# Altium footprint library PCB1.PcbLib: 36 footprints (part 2 of 3)
Each footprint in its own frame and in the unit in brackets; x right, y up, seen from the top. Pads: shape width x height; smd on the part's side, far side on the other; paste and mask are expansions set on the pad; w line width, h text height; cw(c..) or ccw(c..) is an arc to the next point about the centre after c.
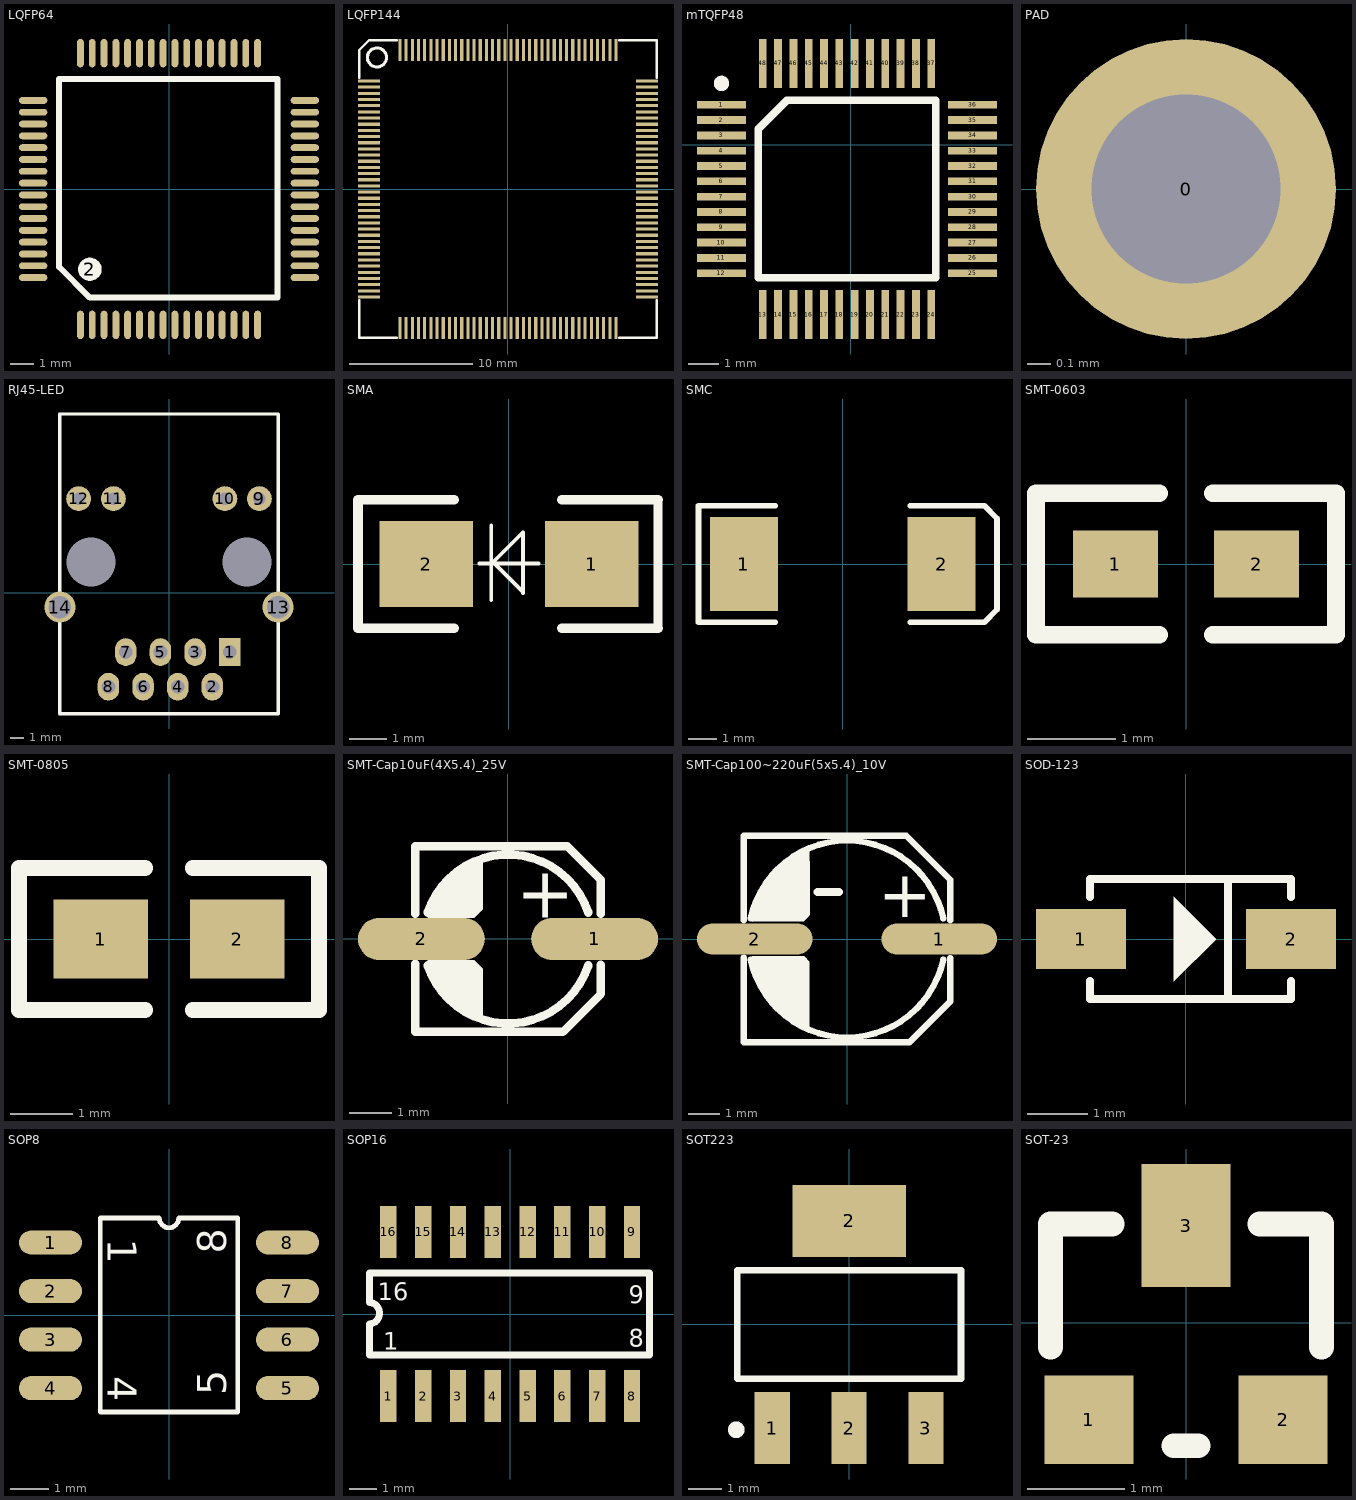
[diagram p1: the footprints below, top view; thin cyan lines are the x and y axes]

## LQFP64 [mm]
height 1.6
pads (65):
  oval 0.292x1.2 smd: 1(-3.75,-5.75) 2(-3.25,-5.75) 3(-2.75,-5.75) 4(-2.25,-5.75) 5(-1.75,-5.75) 6(-1.25,-5.75) 7(-0.75,-5.75) 8(-0.25,-5.75) 9(0.25,-5.75) 10(0.75,-5.75) 11(1.25,-5.75) 12(1.75,-5.75) 13(2.25,-5.75) 14(2.75,-5.75) 15(3.25,-5.75) 16(3.75,-5.75) 33(3.75,5.75) 34(3.25,5.75) 35(2.75,5.75) 36(2.25,5.75) 37(1.75,5.75) 38(1.25,5.75) 39(0.75,5.75) 40(0.25,5.75) 41(-0.25,5.75) 42(-0.75,5.75) 43(-1.25,5.75) 44(-1.75,5.75) 45(-2.25,5.75) 46(-2.75,5.75) 47(-3.25,5.75) 48(-3.75,5.75)
  round 1 on Top Overlay: 2(-3.35,-3.4)
  oval 1.2x0.292 smd: 17(5.75,-3.75) 18(5.75,-3.25) 19(5.75,-2.75) 20(5.75,-2.25) 21(5.75,-1.75) 22(5.75,-1.25) 23(5.75,-0.75) 24(5.75,-0.25) 25(5.75,0.25) 26(5.75,0.75) 27(5.75,1.25) 28(5.75,1.75) 29(5.75,2.25) 30(5.75,2.75) 31(5.75,3.25) 32(5.75,3.75) 49(-5.75,3.75) 50(-5.75,3.25) 51(-5.75,2.75) 52(-5.75,2.25) 53(-5.75,1.75) 54(-5.75,1.25) 55(-5.75,0.75) 56(-5.75,0.25) 57(-5.75,-0.25) 58(-5.75,-0.75) 59(-5.75,-1.25) 60(-5.75,-1.75) 61(-5.75,-2.25) 62(-5.75,-2.75) 63(-5.75,-3.25) 64(-5.75,-3.75)
Top Overlay:
  lines w0.254: -4.65,-3.3 -4.65,-2.05 -4.65,0 -4.65,4.65 4.6,4.65 4.6,-4.6 -3.35,-4.6 -4.65,-3.3

## LQFP144 [mm]
height 1.6
pads (144):
  rect 1.8x0.254 smd: 1(-11.25,8.75) 2(-11.25,8.25) 3(-11.25,7.75) 4(-11.25,7.25) 5(-11.25,6.75) 6(-11.25,6.25) 7(-11.25,5.75) 8(-11.25,5.25) 9(-11.25,4.75) 10(-11.25,4.25) 11(-11.25,3.75) 12(-11.25,3.25) 13(-11.25,2.75) 14(-11.25,2.25) 15(-11.25,1.75) 16(-11.25,1.25) 17(-11.25,0.75) 18(-11.25,0.25) 19(-11.25,-0.25) 20(-11.25,-0.75) 21(-11.25,-1.25) 22(-11.25,-1.75) 23(-11.25,-2.25) 24(-11.25,-2.75) 25(-11.25,-3.25) 26(-11.25,-3.75) 27(-11.25,-4.25) 28(-11.25,-4.75) 29(-11.25,-5.25) 30(-11.25,-5.75) 31(-11.25,-6.25) 32(-11.25,-6.75) 33(-11.25,-7.25) 34(-11.25,-7.75) 35(-11.25,-8.25) 36(-11.25,-8.75) 73(11.25,-8.75) 74(11.25,-8.25) 75(11.25,-7.75) 76(11.25,-7.25) 77(11.25,-6.75) 78(11.25,-6.25) 79(11.25,-5.75) 80(11.25,-5.25) 81(11.25,-4.75) 82(11.25,-4.25) 83(11.25,-3.75) 84(11.25,-3.25) 85(11.25,-2.75) 86(11.25,-2.25) 87(11.25,-1.75) 88(11.25,-1.25) 89(11.25,-0.75) 90(11.25,-0.25) 91(11.25,0.25) 92(11.25,0.75) 93(11.25,1.25) 94(11.25,1.75) 95(11.25,2.25) 96(11.25,2.75) 97(11.25,3.25) 98(11.25,3.75) 99(11.25,4.25) 100(11.25,4.75) 101(11.25,5.25) 102(11.25,5.75) 103(11.25,6.25) 104(11.25,6.75) 105(11.25,7.25) 106(11.25,7.75) 107(11.25,8.25) 108(11.25,8.75)
  rect 0.254x1.8 smd: 37(-8.75,-11.25) 38(-8.25,-11.25) 39(-7.75,-11.25) 40(-7.25,-11.25) 41(-6.75,-11.25) 42(-6.25,-11.25) 43(-5.75,-11.25) 44(-5.25,-11.25) 45(-4.75,-11.25) 46(-4.25,-11.25) 47(-3.75,-11.25) 48(-3.25,-11.25) 49(-2.75,-11.25) 50(-2.25,-11.25) 51(-1.75,-11.25) 52(-1.25,-11.25) 53(-0.75,-11.25) 54(-0.25,-11.25) 55(0.25,-11.25) 56(0.75,-11.25) 57(1.25,-11.25) 58(1.75,-11.25) 59(2.25,-11.25) 60(2.75,-11.25) 61(3.25,-11.25) 62(3.75,-11.25) 63(4.25,-11.25) 64(4.75,-11.25) 65(5.25,-11.25) 66(5.75,-11.25) 67(6.25,-11.25) 68(6.75,-11.25) 69(7.25,-11.25) 70(7.75,-11.25) 71(8.25,-11.25) 72(8.75,-11.25) 109(8.75,11.25) 110(8.25,11.25) 111(7.75,11.25) 112(7.25,11.25) 113(6.75,11.25) 114(6.25,11.25) 115(5.75,11.25) 116(5.25,11.25) 117(4.75,11.25) 118(4.25,11.25) 119(3.75,11.25) 120(3.25,11.25) 121(2.75,11.25) 122(2.25,11.25) 123(1.75,11.25) 124(1.25,11.25) 125(0.75,11.25) 126(0.25,11.25) 127(-0.25,11.25) 128(-0.75,11.25) 129(-1.25,11.25) 130(-1.75,11.25) 131(-2.25,11.25) 132(-2.75,11.25) 133(-3.25,11.25) 134(-3.75,11.25) 135(-4.25,11.25) 136(-4.75,11.25) 137(-5.25,11.25) 138(-5.75,11.25) 139(-6.25,11.25) 140(-6.75,11.25) 141(-7.25,11.25) 142(-7.75,11.25) 143(-8.25,11.25) 144(-8.75,11.25)
Top Overlay:
  circle w0.254: c-10.616,10.654 r0.773
  lines w0.2: -12.05,-9 -12.05,-12.05 -9,-12.05 ; -12.05,9 -12.05,11.25 -11.25,12.05 -9,12.05 ; 9,-12.05 12.05,-12.05 12.05,-9 ; 9,12.05 12.05,12.05 12.05,9

## mTQFP48 [mm]
pads (48):
  rect 1.6x0.254 smd: 1(-4.223,1.3) 2(-4.223,0.8) 3(-4.223,0.3) 4(-4.223,-0.2) 5(-4.223,-0.7) 6(-4.223,-1.2) 7(-4.223,-1.7) 8(-4.223,-2.2) 9(-4.223,-2.7) 10(-4.223,-3.2) 11(-4.223,-3.7) 12(-4.223,-4.2) 25(3.977,-4.2) 26(3.977,-3.7) 27(3.977,-3.2) 28(3.977,-2.7) 29(3.977,-2.2) 30(3.977,-1.7) 31(3.977,-1.2) 32(3.977,-0.7) 33(3.977,-0.2) 34(3.977,0.3) 35(3.977,0.8) 36(3.977,1.3)
  rect 0.254x1.6 smd: 13(-2.873,-5.55) 14(-2.373,-5.55) 15(-1.873,-5.55) 16(-1.373,-5.55) 17(-0.873,-5.55) 18(-0.373,-5.55) 19(0.127,-5.55) 20(0.627,-5.55) 21(1.127,-5.55) 22(1.627,-5.55) 23(2.127,-5.55) 24(2.627,-5.55) 37(2.627,2.65) 38(2.127,2.65) 39(1.627,2.65) 40(1.127,2.65) 41(0.627,2.65) 42(0.127,2.65) 43(-0.373,2.65) 44(-0.873,2.65) 45(-1.373,2.65) 46(-1.873,2.65) 47(-2.373,2.65) 48(-2.873,2.65)
Top Overlay:
  circle w0.25: c-4.223,2 r0.125
  lines w0.2: -3.023,-4.35 2.777,-4.35 2.777,1.45
  lines w0.254: -3.023,0.508 -2.081,1.45 ; -3.023,0.508 -3.023,-4.35 2.777,-4.35 2.777,1.45 -1.397,1.45 -2.081,1.45 ; -3.023,0.508 -2.081,1.45

## PAD [mm]
height 1.6
pads (1):
  round 1.27 hole 0.8: 0(0,0)

## RJ45-LED [mil]
height 62.99
pads (16):
  round 0 hole 141.57 unplated: 0(-224.8,88.56) 0(225.2,88.56)
  rect 62x80 hole 40: 1(175.2,-171.46)
  oval 62x80 hole 40: 2(125.2,-271.46) 3(75.2,-171.46) 4(25.2,-271.46) 5(-24.8,-171.46) 6(-74.8,-271.46) 7(-124.8,-171.46) 8(-174.8,-271.46)
  round 72 hole 36: 9(260.83,271.46) 10(161.2,271.46) 11(-160.67,271.46) 12(-260.8,271.46)
  round 90 hole 65: 13(314.96,-41.54) 14(-314.96,-41.54)
Top Overlay:
  lines w10: -314.8,-350.2 -314.96,-350.04 ; 315.2,-350.2 314.96,-349.96 ; -314.96,-350.04 314.88,-350.04 314.96,-349.96 ; -314.96,-350.04 -314.96,-41.54 -314.96,515.79 -314.8,515.95 315.2,515.95 314.96,515.71 314.96,-41.54 314.96,-349.96

## SMA [mil]
height 62.99
pads (2):
  rect 97.55x90 smd: 1(86.25,0)
  rect 97.5x90 smd: 2(-86.25,0)
Top Overlay:
  lines w3.94: -30.71,0.55 30.71,0.55 ; -18.35,-37.6 -18.35,40.1 ; -18.35,2.3 -16.25,2.3 14.55,33.1 14.55,-30.25 14.55,-29.2 -16.25,1.6
  lines w9.84: 155.51,-66.93 155.51,66.93
  lines w10: -57.09,-66.93 -157.48,-66.93 -157.48,66.93 -57.09,66.93 ; 55.12,-66.93 155.51,-66.93 ; 55.12,66.93 155.51,66.93

## SMC [mm] "DO-214-AB/SMC; 2 C-Bend Leads; Body 7.9 x 5.9 mm, inc. leads (LxW)"
height 2.65
pads (2):
  rect 2.4x3.3 smd: 1(-3.475,0) 2(3.475,0)
Top Overlay:
  lines w0.2: -2.375,-2.05 -5.075,-2.05 -5.075,2.05 -2.375,2.05 ; 2.375,-2.05 4.975,-2.05 5.425,-1.6 5.425,1.6 4.975,2.055 ; 2.375,2.05 4.975,2.05

## SMT-0603 [mil]
height 62.99
pads (2):
  rect 38x30 smd: 1(-31.5,0) 2(31.5,0)
Top Overlay:
  lines w7.87: -12,-31.5 -66.93,-31.5 -66.93,31.5 -12,31.5 ; 12,-31.5 66.93,-31.5 66.93,31.5 12,31.5

## SMT-0805 [mm]
height 1.6
pads (2):
  rect 1.524x1.27 smd: 1(-1.1,0) 2(1.1,0)
Top Overlay:
  lines w0.254: -0.381,-1.143 -2.413,-1.143 -2.413,1.143 -0.381,1.143 ; 0.381,-1.143 2.413,-1.143 2.413,1.143 0.381,1.143

## SMT-Cap10uF(4X5.4)_25V [mm]
height 1.6
pads (2):
  oval 3x1 smd: 1(2.05,0) 2(-2.05,0)
Top Overlay:
  region: -1.9,-0.5 -0.8,-0.5 -0.6,-0.7 -0.6,-1.9 -0.9,-1.8 -1.3,-1.6 -1.6,-1.3 -1.8,-0.9 -1.9,-0.6
  region: -0.6,1.9 -0.6,0.7 -0.8,0.5 -1.9,0.5 -1.6,1.1 -1.4,1.4 -1,1.7
  lines w0.2: -2.2,-0.587 -2.2,-2.2 1.3,-2.2 2.2,-1.3 2.2,-0.608 ; -2.2,0.6 -2.2,2.2 1.4,2.2 2.2,1.4 2.2,0.6 ; -1.902,-0.618 ccw(c0,0) 1.902,-0.618 ; -1.902,0.618 cw(c0,0) 1.902,0.618
  text "+" at 0.2,0.5 h1.2

## SMT-Cap100~220uF(5x5.4)_10V [mm]
height 1.6
pads (2):
  oval 3.7x1 smd: 1(2.95,0) 2(-2.95,0)
Top Overlay:
  region: -1.2,2.9 -1.2,2.1 -1.2,0.8 -1.2,0.75 -1.38,0.57 -3.03,0.56 -2.9,1.2 -2.6,1.7 -2.2,2.1 -1.9,2.4
  region: -3.1,-0.8 -3.1,-0.6 -3.08,-0.58 -3.04,-0.56 -1.36,-0.56 -1.2,-0.72 -1.2,-2.9 -1.7,-2.6 -2.2,-2.2 -2.6,-1.8 -2.9,-1.4
  lines w0.2: -3.3,-0.588 -3.3,-3.3 2,-3.3 3.3,-2 3.3,-0.608 ; -3.3,0.6 -3.3,3.3 1.9,3.3 3.3,1.9 3.3,0.6 ; -3.081,-0.655 ccw(c0,0) 3.081,-0.655 ; -3.081,0.655 cw(c0,0) 3.081,0.655
  lines w0.254: -0.95,1.5 -0.25,1.5
  text "+" at 1,0.7 h1.5

## SOD-123 [mm]
height 1.6
pads (2):
  rect 1.5x1 smd: 1(-1.75,0) 2(1.75,0)
Top Overlay:
  region: -0.2,0.7 -0.2,-0.7 0.5,0
  lines w0.127: -1.6,-0.7 -1.6,-1 1.75,-1 1.75,-0.7 ; -1.6,0.7 -1.6,1 1.75,1 1.75,0.7 ; 0.7,-1 0.7,1

## SOP8 [mm]
height 1.6
pads (8):
  oval 1.651x0.635 smd: 1(-3.1,1.905) 2(-3.1,0.635) 3(-3.1,-0.635) 4(-3.1,-1.905) 5(3.1,-1.905) 6(3.1,-0.635) 7(3.1,0.635) 8(3.1,1.905)
Top Overlay:
  lines w0.127: -1.8,-2.535 -1.8,2.545 -0.254,2.545 ccw(c0,2.545) 0.254,2.545 1.8,2.545 1.8,-2.535 -1.8,-2.535
  text "1" at -1.6,2.005 h0.75
  text "8" at 1.5,1.605 h0.75
  text "5" at 1.5,-2.095 h0.75
  text "4" at -1.6,-1.595 h0.75

## SOP16 [mm]
height 1.6
pads (16):
  rect 0.6x1.9 smd: 1(-4.445,-3) 2(-3.175,-3) 3(-1.905,-3) 4(-0.635,-3) 5(0.635,-3) 6(1.905,-3) 7(3.175,-3) 8(4.445,-3) 9(4.445,3) 10(3.175,3) 11(1.905,3) 12(0.635,3) 13(-0.635,3) 14(-1.905,3) 15(-3.175,3) 16(-4.445,3)
Top Overlay:
  lines w0.254: -5.135,-1.5 5.08,-1.5 5.08,1.5 -5.135,1.5 -5.135,0.42 -5.105,0.42 cw(c-5.161,0.03) -5.105,-0.36 -5.135,-0.36 -5.135,-1.5
  text "9" at 4.335,0.4 h0.64
  text "16" at -4.835,0.5 h0.64
  text "8" at 4.335,-1.2 h0.64
  text "1" at -4.635,-1.3 h0.64

## SOT223 [mm]
height 1.6
pads (4):
  rect 1.05x2.15 smd: 1(-2.3,-3.1) 2(0,-3.1) 3(2.3,-3.1)
  rect 3.4x2.15 smd: 2(0,3.1)
Top Overlay:
  circle w0.25: c-3.375,-3.15 r0.125
  lines w0.2: -3.35,-1.625 -3.35,1.625 3.35,1.625 3.35,-1.625 -3.35,-1.625

## SOT-23 [mm]
height 1.6
pads (3):
  rect 0.914x0.914 smd: 1(-1,-1) 2(1,-1)
  rect 0.914x1.27 smd: 3(0,1)
Top Overlay:
  lines w0.254: -1.397,-0.254 -1.397,1.016 -0.762,1.016 ; -0.127,-1.27 0.127,-1.27 ; 0.762,1.016 1.397,1.016 1.397,-0.254